# Altium schematic symbol library SSM6N67NU,LF.SchLib: 1 symbol
Pins are listed as number, name and electrical type; pins without a type are passive.

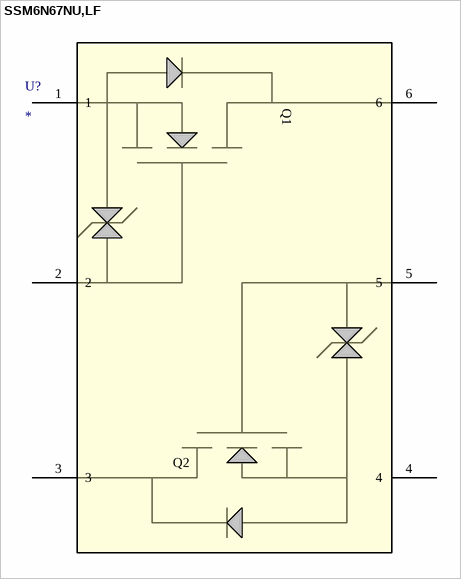
[diagram p0: symbol SSM6N67NU,LF]

## SSM6N67NU,LF
designator U?
No Description Available; Mfr_Name: Toshiba Electronic Devices & Storage Corp.; RefDes: RefDes; Type: Type
footprint UDFN6_TOS
pins: 1, 2, 3, 4, 5, 6
text: Q1; Q2